# EAGLE library part OPTO_4_CHANNELS (library jogwheel_parts)
4 CHANNEL OPTOCOUPLER IC
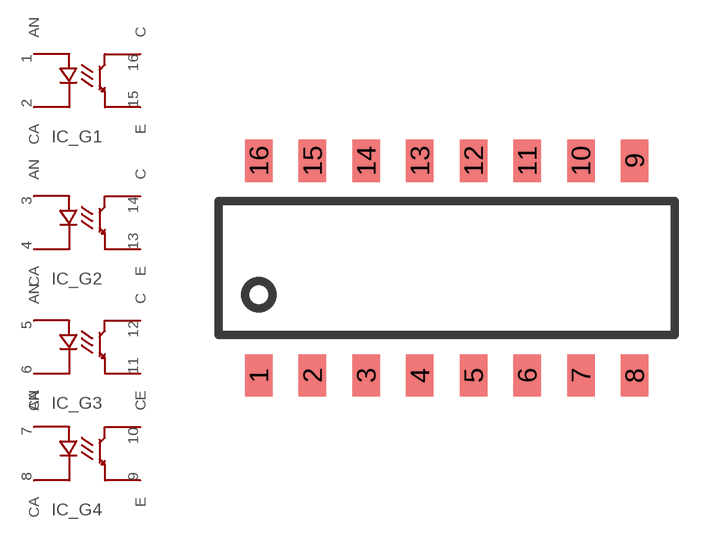
[diagram p4: symbol with the pads of ACPL-845-O300; footprint ACPL-845-O300]

Designator prefix IC; gates _G1=OPTO _G2=OPTO _G3=OPTO _G4=OPTO

## OPTO_4_CHANNELS  [ACPL-845-O300]
1  _G1:AN
2  _G1:CA
3  _G2:AN
4  _G2:CA
5  _G3:AN
6  _G3:CA
7  _G4:AN
8  _G4:CA
9  _G4:E
10  _G4:C
11  _G3:E
12  _G3:C
13  _G2:E
14  _G2:C
15  _G1:E
16  _G1:C

## Footprint ACPL-845-O300 (pad centres in mm)
ACPL-847 OPTION 300 4 CHANNEL OPTOCOUPLER FARNELL <http://fi.farnell.com/avago-technologies/acpl-847-30ge/optocoupler-smd-4x-transistor-o/dp/1339045>
smd 1.3 x 2: 1 0,-10.16; 2 2.54,-10.16; 3 5.08,-10.16; 4 7.62,-10.16; 5 10.16,-10.16; 6 12.7,-10.16; 7 15.24,-10.16; 8 17.78,-10.16; 9 17.78,0; 10 15.24,0; 11 12.7,0; 12 10.16,0; 13 7.62,0; 14 5.08,0; 15 2.54,0; 16 0,0